# EAGLE library part AT89C51AC3 (library At89c51ac3)
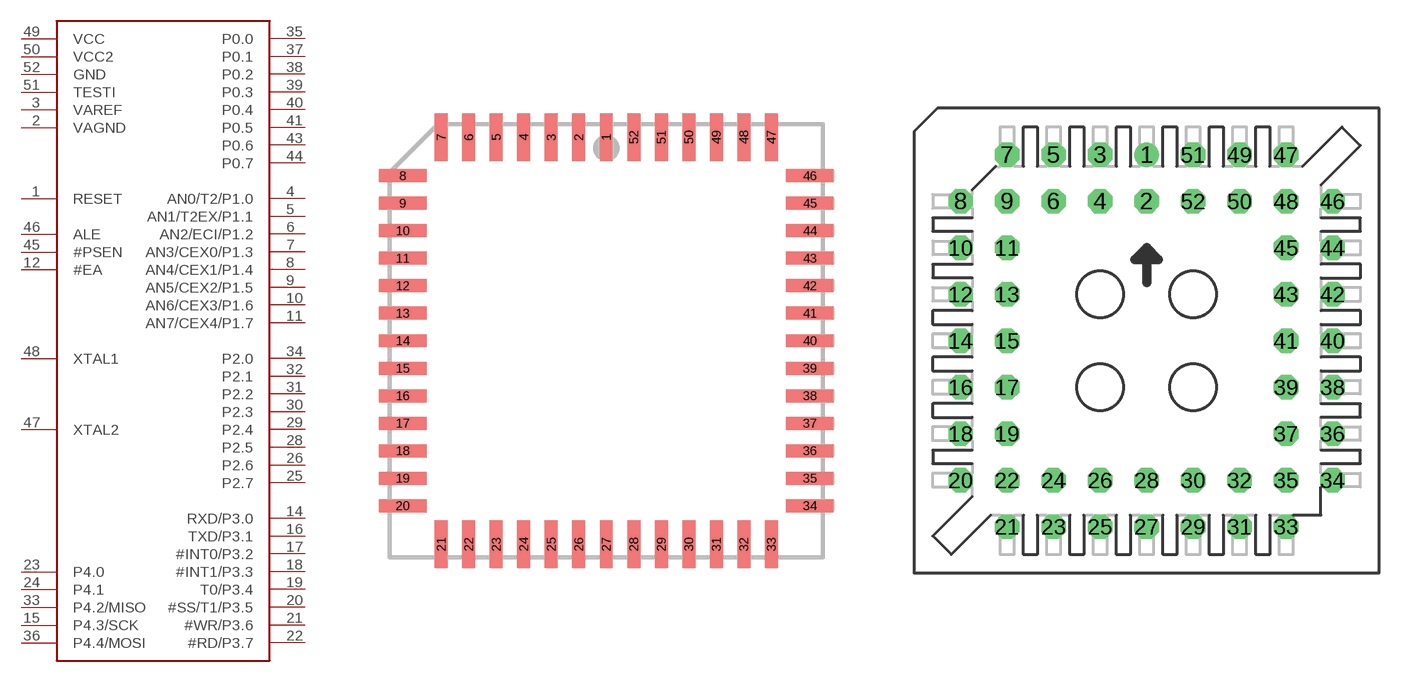
[diagram p0: symbol with the pads of PLCC52; footprints PLCC52, PLCC-S52-SOCKET]

Designator prefix -

## AT89C51AC3  [PLCC52]
1  RESET
2  VAGND
3  VAREF
4  AN0/T2/P1.0
5  AN1/T2EX/P1.1
6  AN2/ECI/P1.2
7  AN3/CEX0/P1.3
8  AN4/CEX1/P1.4
9  AN5/CEX2/P1.5
10  AN6/CEX3/P1.6
11  AN7/CEX4/P1.7
12  #EA
14  RXD/P3.0
15  P4.3/SCK
16  TXD/P3.1
17  #INT0/P3.2
18  #INT1/P3.3
19  T0/P3.4
20  #SS/T1/P3.5
21  #WR/P3.6
22  #RD/P3.7
23  P4.0
24  P4.1
25  P2.7
26  P2.6
28  P2.5
29  P2.4
30  P2.3
31  P2.2
32  P2.1
33  P4.2/MISO
34  P2.0
35  P0.0
36  P4.4/MOSI
37  P0.1
38  P0.2
39  P0.3
40  P0.4
41  P0.5
43  P0.6
44  P0.7
45  #PSEN
46  ALE
47  XTAL2
48  XTAL1
49  VCC
50  VCC2
51  TESTI
52  GND

## AT89C51AC3SOCK  [PLCC-S52-SOCKET]
Pads as for PLCC52

## Footprint PLCC52 (pad centres in mm)
PLASTIC LEADED CHIP CARRIER square
smd 0.6 x 2.2: 1 0,9.4; 2 -1.27,9.4; 3 -2.54,9.4; 4 -3.81,9.4; 5 -5.08,9.4; 6 -6.35,9.4; 7 -7.62,9.4; 21 -7.62,-9.4; 22 -6.35,-9.4; 23 -5.08,-9.4; 24 -3.81,-9.4; 25 -2.54,-9.4; 26 -1.27,-9.4; 27 0,-9.4; 28 1.27,-9.4; 29 2.54,-9.4; 30 3.81,-9.4; 31 5.08,-9.4; 32 6.35,-9.4; 33 7.62,-9.4; 47 7.62,9.4; 48 6.35,9.4; 49 5.08,9.4; 50 3.81,9.4; 51 2.54,9.4; 52 1.27,9.4
smd 2.2 x 0.6: 8 -9.4,7.62; 9 -9.4,6.35; 10 -9.4,5.08; 11 -9.4,3.81; 12 -9.4,2.54; 13 -9.4,1.27; 14 -9.4,0; 15 -9.4,-1.27; 16 -9.4,-2.54; 17 -9.4,-3.81; 18 -9.4,-5.08; 19 -9.4,-6.35; 20 -9.4,-7.62; 34 9.4,-7.62; 35 9.4,-6.35; 36 9.4,-5.08; 37 9.4,-3.81; 38 9.4,-2.54; 39 9.4,-1.27; 40 9.4,0; 41 9.4,1.27; 42 9.4,2.54; 43 9.4,3.81; 44 9.4,5.08; 45 9.4,6.35; 46 9.4,7.62

## Footprint PLCC-S52-SOCKET (pad centres in mm)
Plastic Leaded Chip Carrier Socket
drill 0.813 round: 1 0,10.16
drill 0.813 octagon: 2 0,7.62; 3 -2.54,10.16; 4 -2.54,7.62; 5 -5.08,10.16; 6 -5.08,7.62; 7 -7.62,10.16; 8 -10.16,7.62; 9 -7.62,7.62; 10 -10.16,5.08; 11 -7.62,5.08; 12 -10.16,2.54; 13 -7.62,2.54; 14 -10.16,0; 15 -7.62,0; 16 -10.16,-2.54; 17 -7.62,-2.54; 18 -10.16,-5.08; 19 -7.62,-5.08; 20 -10.16,-7.62; 21 -7.62,-10.16; 22 -7.62,-7.62; 23 -5.08,-10.16; 24 -5.08,-7.62; 25 -2.54,-10.16; 26 -2.54,-7.62; 27 0,-10.16; 28 0,-7.62; 29 2.54,-10.16; 30 2.54,-7.62; 31 5.08,-10.16; 32 5.08,-7.62; 33 7.62,-10.16; 34 10.16,-7.62; 35 7.62,-7.62; 36 10.16,-5.08; 37 7.62,-5.08; 38 10.16,-2.54; 39 7.62,-2.54; 40 10.16,0; 41 7.62,0; 42 10.16,2.54; 43 7.62,2.54; 44 10.16,5.08; 45 7.62,5.08; 46 10.16,7.62; 47 7.62,10.16; 48 7.62,7.62; 49 5.08,10.16; 50 5.08,7.62; 51 2.54,10.16; 52 2.54,7.62